# Altium footprint library PcbLib1.PcbLib: 17 footprints (part 1 of 2)
Each footprint in its own frame and in the unit in brackets; x right, y up, seen from the top. Pads: shape width x height; smd on the part's side, far side on the other; paste and mask are expansions set on the pad; w line width, h text height; cw(c..) or ccw(c..) is an arc to the next point about the centre after c.
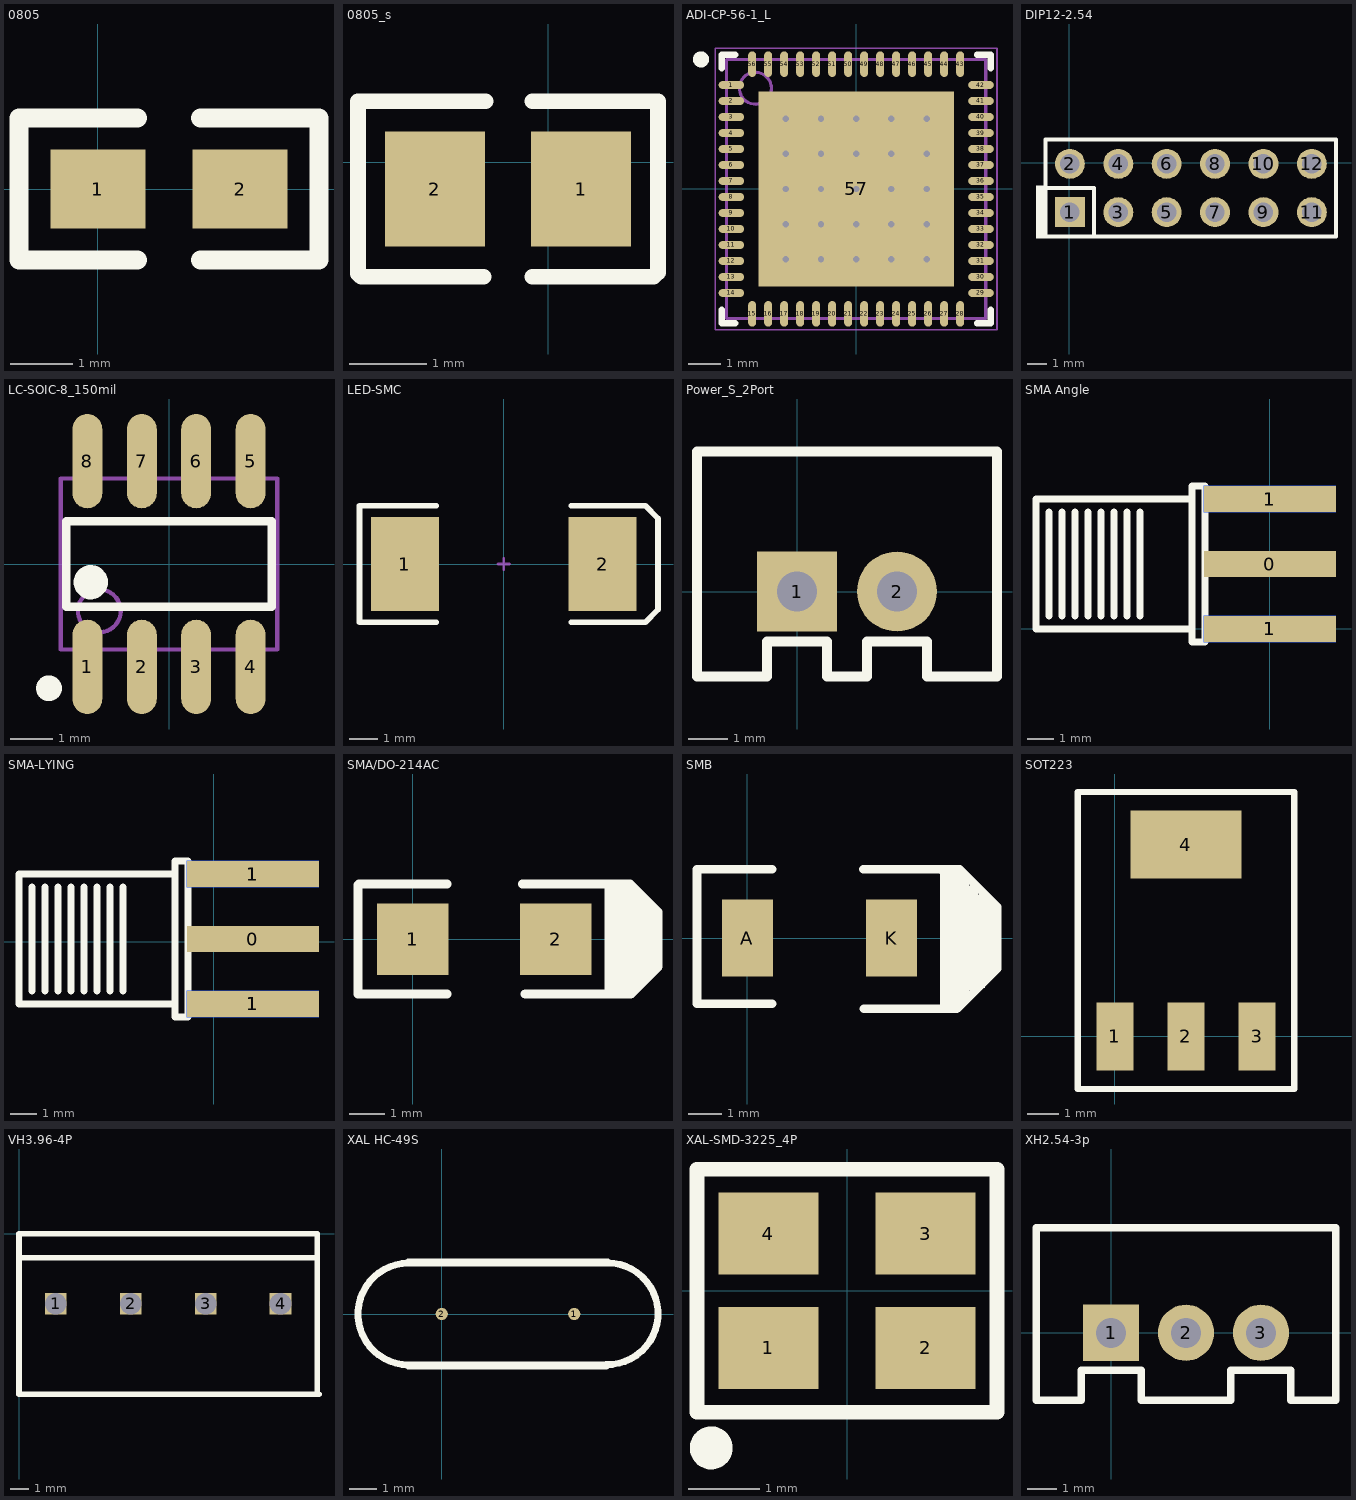
[diagram p0: the footprints below, top view; thin cyan lines are the x and y axes]

## 0805 [mil]
pads (2):
  rect 60x50 smd: 1(0,0) 2(90,0)
Top Overlay:
  lines w12: 25,-45 -50,-45 -50,45 25,45 ; 65,-45 140,-45 140,45 65,45

## 0805_s [mm]
pads (2):
  rect 1.3x1.499 smd: 1(0.425,-0.35) 2(-1.475,-0.35)
Top Overlay:
  lines w0.203: -0.84,-1.493 -2.432,-1.493 -2.475,-1.45 -2.475,0.793 -0.818,0.793 ; -0.21,-1.493 1.368,-1.493 1.425,-1.436 1.425,0.793 -0.21,0.793

## ADI-CP-56-1_L [mm] "QFN, 56-Leads, Body 8x8mm, Pitch 0.5mm, Thermal Pad 6.1x6.1mm, IPC High Density"
height 1
pads (57):
  oval 0.8x0.25 smd: 1(-3.9,3.25) 2(-3.9,2.75) 3(-3.9,2.25) 4(-3.9,1.75) 5(-3.9,1.25) 6(-3.9,0.75) 7(-3.9,0.25) 8(-3.9,-0.25) 9(-3.9,-0.75) 10(-3.9,-1.25) 11(-3.9,-1.75) 12(-3.9,-2.25) 13(-3.9,-2.75) 14(-3.9,-3.25) 29(3.9,-3.25) 30(3.9,-2.75) 31(3.9,-2.25) 32(3.9,-1.75) 33(3.9,-1.25) 34(3.9,-0.75) 35(3.9,-0.25) 36(3.9,0.25) 37(3.9,0.75) 38(3.9,1.25) 39(3.9,1.75) 40(3.9,2.25) 41(3.9,2.75) 42(3.9,3.25)
  oval 0.25x0.8 smd: 15(-3.25,-3.9) 16(-2.75,-3.9) 17(-2.25,-3.9) 18(-1.75,-3.9) 19(-1.25,-3.9) 20(-0.75,-3.9) 21(-0.25,-3.9) 22(0.25,-3.9) 23(0.75,-3.9) 24(1.25,-3.9) 25(1.75,-3.9) 26(2.25,-3.9) 27(2.75,-3.9) 28(3.25,-3.9) 43(3.25,3.9) 44(2.75,3.9) 45(2.25,3.9) 46(1.75,3.9) 47(1.25,3.9) 48(0.75,3.9) 49(0.25,3.9) 50(-0.25,3.9) 51(-0.75,3.9) 52(-1.25,3.9) 53(-1.75,3.9) 54(-2.25,3.9) 55(-2.75,3.9) 56(-3.25,3.9)
  rect 6.1x6.1 smd: 57(0,0)
via 2.2,-2.2 diameter 0.5 hole 0.2
via 1.1,-2.2 diameter 0.5 hole 0.2
via 0,-2.2 diameter 0.5 hole 0.2
via -1.1,-2.2 diameter 0.5 hole 0.2
via -2.2,-2.2 diameter 0.5 hole 0.2
via 2.2,-1.1 diameter 0.5 hole 0.2
via 1.1,-1.1 diameter 0.5 hole 0.2
via 0,-1.1 diameter 0.5 hole 0.2
via -1.1,-1.1 diameter 0.5 hole 0.2
via -2.2,-1.1 diameter 0.5 hole 0.2
via 2.2,0 diameter 0.5 hole 0.2
via 1.1,0 diameter 0.5 hole 0.2
via 0,0 diameter 0.5 hole 0.2
via -1.1,0 diameter 0.5 hole 0.2
via -2.2,0 diameter 0.5 hole 0.2
via 2.2,1.1 diameter 0.5 hole 0.2
via 1.1,1.1 diameter 0.5 hole 0.2
via 0,1.1 diameter 0.5 hole 0.2
via -1.1,1.1 diameter 0.5 hole 0.2
via -2.2,1.1 diameter 0.5 hole 0.2
via 2.2,2.2 diameter 0.5 hole 0.2
via 1.1,2.2 diameter 0.5 hole 0.2
via 0,2.2 diameter 0.5 hole 0.2
via -1.1,2.2 diameter 0.5 hole 0.2
via -2.2,2.2 diameter 0.5 hole 0.2
Top Overlay:
  circle w0.25: c-4.85,4.05 r0.125
  lines w0.2: -4.2,-3.775 -4.2,-4.2 -3.775,-4.2 ; -4.2,3.775 -4.2,4.2 -3.775,4.2 ; 3.775,-4.2 4.2,-4.2 4.2,-3.775 ; 3.775,4.2 4.2,4.2 4.2,3.775
Mechanical 13:
  circle w0.1: c-3.15,3.15 r0.5
  lines w0.1: -4.05,-4.05 4.05,-4.05 4.05,4.05 -4.05,4.05 -4.05,-4.05
Mechanical 15:
  lines w0.05: -4.4,-4.4 4.4,-4.4 4.4,4.4 -4.4,4.4 -4.4,-4.4
  lines w0.1: -0.5,0 0.5,0 ; 0,-0.5 0,0.5
3D body: height 1, standoff 0, extent -4.05,-4.05 4.05,4.05

## DIP12-2.54 [mil]
pads (12):
  rect 62x62 hole 40: 1(1,-102)
  round 62 hole 40: 2(1,-2) 3(101,-102) 4(101,-2) 5(201,-102) 6(201,-2) 7(301,-102) 8(301,-2) 9(401,-102) 10(401,-2) 11(501,-102) 12(501,-2)
Top Overlay:
  rectangle: -69,-156 -49,-47
  lines w8: -49,-52 51,-52 51,-151 ; -49,-152 -49,48 551,48 551,-152 -49,-152

## LC-SOIC-8_150mil [mm]
pads (8):
  oval 0.7x2.2 smd: 1(-1.905,-2.4) 2(-0.635,-2.4) 3(0.635,-2.4) 4(1.905,-2.4) 5(1.905,2.4) 6(0.635,2.4) 7(-0.635,2.4) 8(-1.905,2.4)
Top Overlay:
  circle w0.4: c-1.825,-0.425 r0.2
  circle w0.3: c-2.8,-2.9 r0.15
  lines w0.2: -2.4,-1 -2.4,1 2.4,1 2.4,-1 -2.4,-1
Mechanical 13:
  circle w0.1: c-1.625,-1.095 r0.5
  lines w0.1: -2.525,-1.995 -2.525,1.995 2.525,1.995 2.525,-1.995 -2.525,-1.995

## LED-SMC [mm] "DO-214-AB/SMC; 2 C-Bend Leads; Body 7.9 x 5.9 mm, inc. leads (LxW)"
height 2.65
pads (2):
  rect 2.4x3.3 smd: 1(-3.475,0) 2(3.475,0)
Top Overlay:
  lines w0.2: -2.375,-2.05 -5.075,-2.05 -5.075,2.05 -2.375,2.05 ; 2.375,-2.05 4.975,-2.05 5.425,-1.6 5.425,1.6 4.975,2.055 ; 2.375,2.05 4.975,2.05
Mechanical 1:
  lines w0.1: -0.2,0 0.2,0 ; 0,-0.2 0,0.2

## Power_S_2Port [mil]
pads (2):
  rect 80x80 hole 40: 1(0,0)
  round 80 hole 40: 2(100,0)
Top Overlay:
  lines w10: -100,-85 -30,-85 -30,-50 30,-50 30,-85 70,-85 70,-50 130,-50 130,-85 200,-85 200,140 -100,140 -100,-85

## SMA Angle [mil]
pads (5):
  rect 200x40 smd: 0(0,98.43) 1(0,0) 1(0,196.85)
  rect 200x40 smd far side: 1(0,0) 1(0,196.85)
Top Overlay:
  lines w10: -334.65,19.68 -334.65,177.17 ; -314.96,19.68 -314.96,177.17 ; -295.28,19.68 -295.28,177.17 ; -275.59,19.68 -275.59,177.17 ; -255.91,19.68 -255.91,177.17 ; -236.22,19.68 -236.22,177.17 ; -216.54,19.68 -216.54,39.37 -216.54,177.17 ; -196.85,19.68 -196.85,177.17 ; -118.11,0 -354.33,0 -354.33,196.85 -118.11,196.85 ; -118.11,-19.68 -98.43,-19.68 -98.43,0 -98.43,216.54 -118.11,216.54 -118.11,-19.68

## SMA-LYING [mm]
height 8.2
pads (5):
  rect 5.08x1.016 smd: 0(1.5,0.1) 1(1.5,-2.4) 1(1.5,2.6)
  rect 5.08x1.016 smd far side: 1(1.5,-2.4) 1(1.5,2.6)
Top Overlay:
  lines w0.254: -7,-1.9 -7,2.1 ; -6.5,-1.9 -6.5,2.1 ; -6,-1.9 -6,2.1 ; -5.5,-1.9 -5.5,2.1 ; -5,-1.9 -5,2.1 ; -4.5,-1.9 -4.5,2.1 ; -4,-1.9 -4,-1.4 -4,2.1 ; -3.5,-1.9 -3.5,2.1 ; -1.5,-2.4 -7.5,-2.4 -7.5,2.6 -1.5,2.6 ; -1.5,-2.9 -1.5,3.1 -1,3.1 -1,-2.4 -1,-2.9 -1.5,-2.9

## SMA/DO-214AC [mm]
pads (2):
  rect 2x2 smd: 1(0,0) 2(4,0)
Top Overlay:
  rectangle: 6.35,-0.762 6.858,-0.381
  rectangle: 6.325,-0.61 6.858,0.762
  rectangle: 6.223,-1.118 6.625,0.995
  rectangle: 5.486,-1.295 6.379,1.241
  rectangle: 5.486,-1.473 6.147,1.524
  lines w0.254: -1.524,1.524 -1.524,-1.524 0.965,-1.524 ; -1.499,1.549 0.965,1.549 ; 3.073,1.549 5.486,1.549 6.02,1.549 6.071,1.549 6.833,0.787 6.858,0.762 6.858,-0.762 6.147,-1.473 6.096,-1.524 5.486,-1.524 ; 3.15,-1.524 5.486,-1.524 ; 5.486,1.524 5.486,-1.524 ; 6.262,1.358 6.262,1.033 6.262,0.825 6.431,0.995 6.498,0.995 6.858,0.635 ; 6.579,-0.838 6.579,-0.61

## SMB [mm]
pads (2):
  rect 1.52x2.3 smd: A(0,0) K(4.3,0)
Top Overlay:
  rectangle: 5.867,-2.108 6.248,1.956
  rectangle: 6.248,-1.981 6.376,1.956
  rectangle: 6.376,-1.864 6.492,1.956
  rectangle: 6.492,-1.864 6.601,1.781
  rectangle: 6.756,-1.482 6.875,1.626
  rectangle: 6.528,-1.565 6.791,1.575
  rectangle: 6.756,-1.482 7.083,1.299
  rectangle: 6.833,-1.092 7.442,0.94
  rectangle: 7.041,0.737 7.214,1.341
  rectangle: 7.191,0.737 7.214,1.191
  rectangle: 7.041,0.737 7.366,1.016
  lines w0.254: 0.744,-1.956 -1.499,-1.956 -1.499,2.057 0.749,2.057 ; 3.457,2.057 5.766,2.057 ; 3.475,-2.108 5.867,-2.108 ; 5.766,2.057 5.867,1.956 5.867,-2.108 ; 5.766,2.057 6.325,2.057 7.366,1.016 7.442,0.94 7.442,-0.914 6.248,-2.108 5.867,-2.108

## SOT223 [mm]
pads (4):
  rect 1.2x2.2 smd: 1(0,0) 2(2.3,0) 3(4.6,0)
  rect 3.6x2.2 smd: 4(2.3,6.2)
Top Overlay:
  lines w0.2: -1.2,-1.7 5.8,-1.7 5.8,7.9 -1.2,7.9 -1.2,-1.7

## VH3.96-4P [mm]
pads (4):
  rect 1.14x1.14 hole 1.14: 1(1.95,-3.7) 2(5.91,-3.7) 3(9.87,-3.7) 4(13.83,-3.7)
Top Overlay:
  lines w0.3: 0,-1.27 15.78,-1.27 ; 15.78,-8.414 15.78,0 0,0 0,-8.5 15.866,-8.5

## XAL HC-49S [mm]
pads (2):
  round 0.45 smd: 1(4.88,0) 2(0,0)
Top Overlay:
  lines w0.254: -1.22,1.875 ccw(c-1.21,0) -1.22,-1.875 ; 6.06,-1.865 ccw(c6.09,0.01) 6.1,1.885
  lines w0.3: -1.22,1.9 6.1,1.9 ; -1.22,-1.9 6.06,-1.9

## XAL-SMD-3225_4P [mm]
pads (4):
  rect 1.4x1.15 smd: 1(-1.1,-0.8) 2(1.1,-0.8) 3(1.1,0.8) 4(-1.1,0.8)
Top Overlay:
  circle w0.3: c-1.9,-2.2 r0.15
  lines w0.203: -2.1,-1.7 2.1,-1.7 2.1,1.7 -2.1,1.7 -2.1,-1.7
3D body "User Library-3225-1.STEP": height 0.61, standoff 0, extent -1.6,-1.25 1.6,1.25

## XH2.54-3p [mil]
pads (3):
  rect 75x75 hole 40: 1(0,0)
  round 75 hole 40: 2(100,0) 3(200,0)
Top Overlay:
  lines w10: -100,-90 -40,-90 -40,-50 40,-50 40,-90 160,-90 160,-50 240,-50 240,-90 300,-90 300,140 -100,140 -100,-90